# EAGLE library part ESP01 (library ESP)
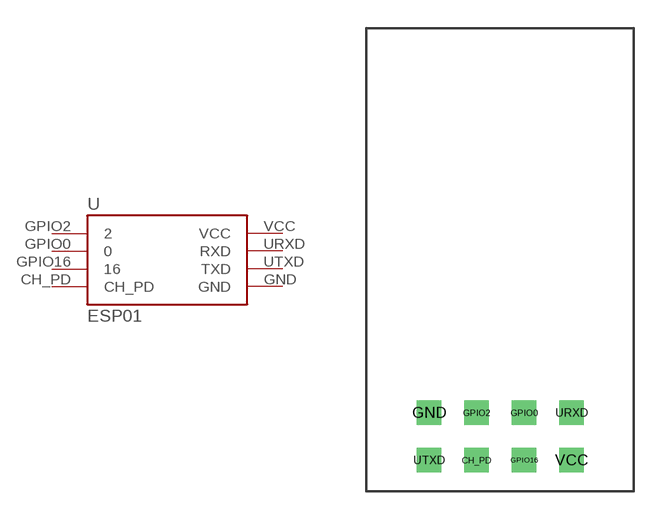
[diagram p3: symbol with the pads of ESP01; footprint ESP01]

Designator prefix -

## ESP01  [ESP01]
CH_PD  CH_PD  in
GND  GND  pwr
GPIO0  0
GPIO2  2
GPIO16  16
URXD  RXD  out
UTXD  TXD  in
VCC  VCC  pwr

## Footprint ESP01 (pad centres in mm)
drill 0.8 square: CH_PD 5.915,1.67; GND 3.375,4.21; GPIO0 8.455,4.21; GPIO2 5.915,4.21; GPIO16 8.455,1.67; URXD 10.995,4.21; UTXD 3.375,1.67; VCC 10.995,1.67